# Altium schematic symbol library Liquid Tremolo.SchLib: 27 symbols
Pins are listed as number, name and electrical type; pins without a type are passive.

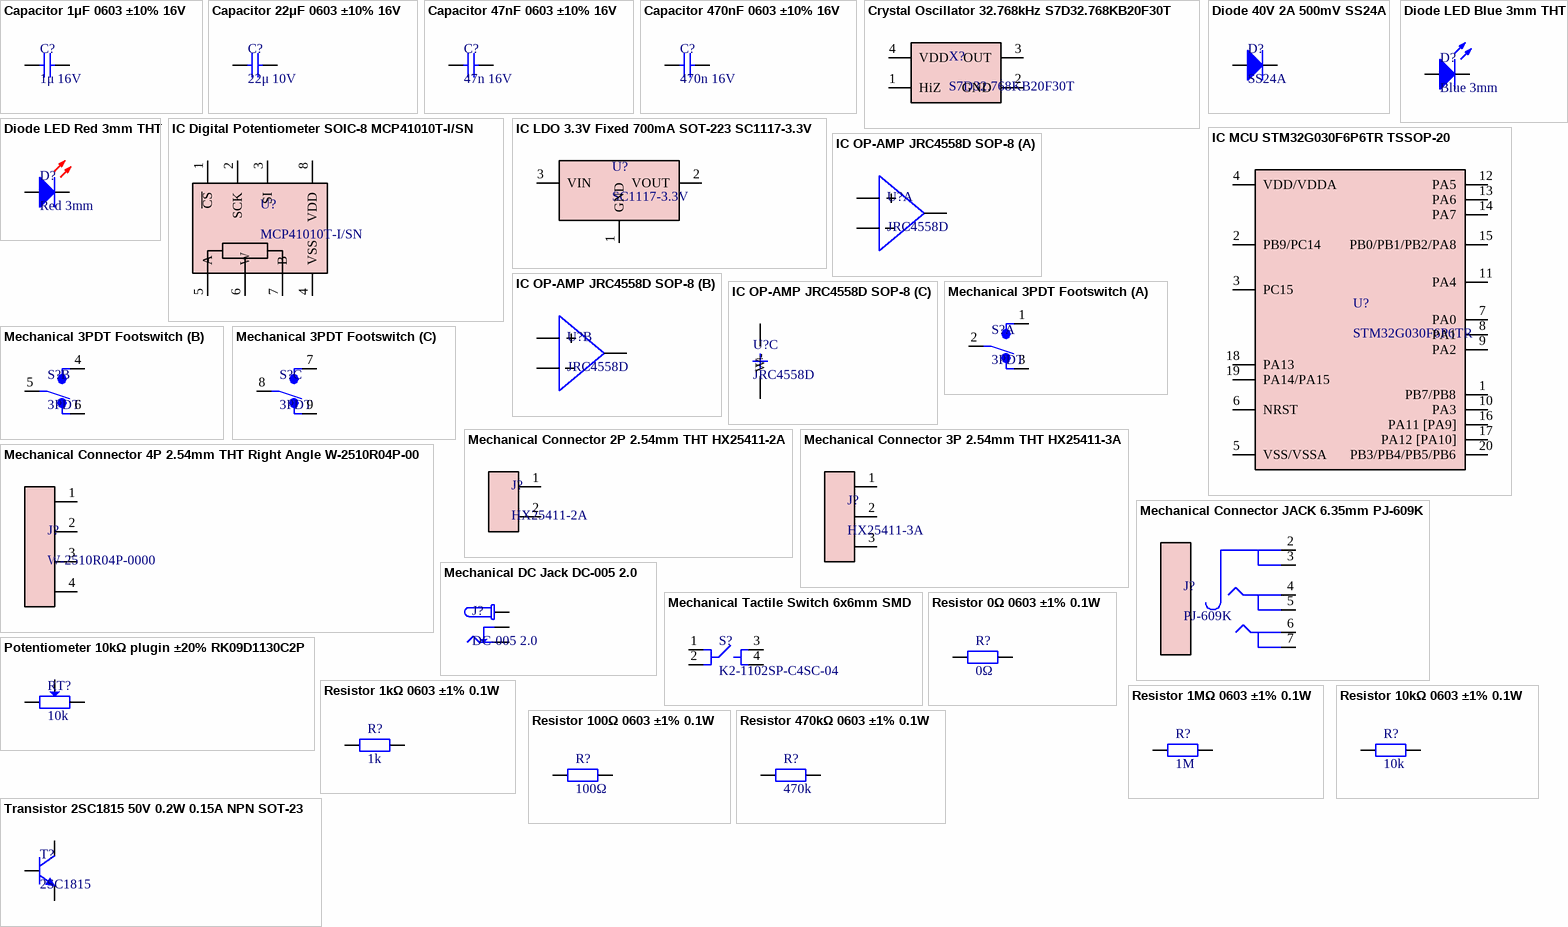
[diagram p0: symbols Capacitor 1μF 0603 ±10% 16V to Transistor 2SC1815 50V 0.2W 0.15A NPN SOT-23]

## Capacitor 1μF 0603 ±10% 16V
designator C?, comment 1μ 16V
X7R ±10% 1uF 16V 0603 Multilayer Ceramic Capacitors MLCC - SMD/SMT ROHS; Mfr. Part #: CC0603KRX7R7BB105; Type: SMD; LCSC Part #: C106248; Package: 0603; ComponentLink1Description: Datasheet; ComponentLink1URL: https://datasheet.lcsc.com/lcsc/1811082135_YAGEO-CC0603KRX7R7BB473_C115058.pdf
footprint Capacitor 0603
pins: 1, 2

## Capacitor 22μF 0603 ±10% 16V
designator C?, comment 22μ 10V
X5R ±20% 10V 22uF 0603 Multilayer Ceramic Capacitors MLCC - SMD/SMT ROHS; Mfr. Part #: 0603X226M100NT; Type: SMD; LCSC Part #: C60077; Package: 0603; ComponentLink1Description: Datasheet; ComponentLink1URL: https://datasheet.lcsc.com/lcsc/1811151152_FH-Guangdong-Fenghua-Advanced-Tech-0603X226M100NT_C60077.pdf
footprint Capacitor 0603
pins: 1, 2

## Capacitor 47nF 0603 ±10% 16V
designator C?, comment 47n 16V
X7R ±10% 47nF 16V 0603 Multilayer Ceramic Capacitors MLCC - SMD/SMT ROHS; Mfr. Part #: CC0603KRX7R7BB473; Type: SMD; LCSC Part #: C115058; Package: 0603; ComponentLink1Description: Datasheet; ComponentLink1URL: https://datasheet.lcsc.com/lcsc/1811082135_YAGEO-CC0603KRX7R7BB473_C115058.pdf
footprint Capacitor 0603
pins: 1, 2

## Capacitor 470nF 0603 ±10% 16V
designator C?, comment 470n 16V
X7R ±10% 470nF 16V 0603 Multilayer Ceramic Capacitors MLCC - SMD/SMT ROHS; Mfr. Part #: CC0603KRX7R7BB474; Type: SMD; LCSC Part #: C106851; Package: 0603; ComponentLink1Description: Datasheet; ComponentLink1URL: https://datasheet.lcsc.com/lcsc/1811082135_YAGEO-CC0603KRX7R7BB473_C115058.pdf
footprint Capacitor 0603
pins: 1, 2

## Crystal Oscillator 32.768kHz S7D32.768KB20F30T
designator X?, comment S7D32.768KB20F30T
3.3V 32.768KHz ±20ppm SMD7050-4P Oscillators ROHS; Mfr. Part #: S7D32.768KB20F30T; LCSC Part #: C387070; Package: SMD7050-4P; ComponentLink1Description: Datasheet; ComponentLink1URL: https://datasheet.lcsc.com/lcsc/1912111437_Shenzhen-SCTF-Elec-S7D32-768KB20F30T_C387070.pdf; Type: SMD
footprint S7D32.768KB20F30T
pins: 1 HiZ, 2 GND, 3 OUT, 4 VDD

## Diode 40V 2A 500mV SS24A
designator D?, comment SS24A
40V 2A 500mV @ 2A SMA(DO-214AC) Schottky Barrier Diodes (SBD) ROHS; Type: SMD; Mfr. Part #: SS24A; LCSC Part #: C181203; Package: SMA(DO-214AC); ComponentLink1Description: Datasheet; ComponentLink1URL: https://datasheet.lcsc.com/lcsc/1811151533_Guangdong-Hottech-SS24A_C181203.pdf
footprint SS24A
pins: 1, 2

## Diode LED Blue 3mm THT
designator D?, comment Blue 3mm
Blue 460nm~470nm 2.7V~3.6V Through Hole Light Emitting Diodes (LED) ROHS; Mfr. Part #: TJ-L3FYTGCBMCGSFLC6B-A5; Type: THT; LCSC Part #: C330760; Package: Through Hole; ComponentLink1Description: Datasheet; ComponentLink1URL: https://datasheet.lcsc.com/lcsc/2006301911_TOGIALED-TJ-L3FYTGCBMCGSFLC6B-A5_C330760.pdf
footprint LED 3MM BLUE
pins: 1, 2

## Diode LED Red 3mm THT
designator D?, comment Red 3mm
Red 620nm~630nm 1.8V~2.6V Through Hole Light Emitting Diodes (LED) ROHS; Mfr. Part #: TJ-L4FYTGCRMFCSFLC2R-A5; Type: THT; LCSC Part #: C331039; Package: Through Hole; ComponentLink1Description: Datasheet; ComponentLink1URL: https://datasheet.lcsc.com/lcsc/2006301911_TOGIALED-TJ-L3FYTGCBMCGSFLC6B-A5_C330760.pdf
footprint LED 3MM BLUE
pins: 1, 2

## IC Digital Potentiometer SOIC-8 MCP41010T-I/SN
designator U?, comment MCP41010T-I/SN
SOIC-8 Digital Potentiometers ROHS; Mfr. Part #: MCP41010T-I/SN; LCSC Part #: C136395; Package: SOIC-8; ComponentLink1Description: Datasheet; ComponentLink1URL: https://datasheet.lcsc.com/lcsc/1806121747_Microchip-Tech-MCP41010T-I-SN_C136395.pdf; Type: SMD
footprint MCP41010
pins: 1 ~{CS}, 2 SCK, 3 SI, 4 VSS, 5 A, 6 W, 7 B, 8 VDD

## IC LDO 3.3V Fixed 700mA SOT-223 SC1117-3.3V
designator U?, comment SC1117-3.3V
12V 1.5V @ 700mA Fixed 3.3V SOT-223 Linear Voltage Regulators (LDO) ROHS; Mfr. Part #: SC1117-3.3V; LCSC Part #: C173386; Package: SOT-223; ComponentLink1Description: Datasheet; ComponentLink1URL: https://datasheet.lcsc.com/lcsc/2105181504_Shenzhen-Fuman-Elec-SC1117-3-3V_C173386.pdf; Type: SMD
footprint SC1117-3.3V
pins: 1 GND, 2 VOUT, 3 VIN

## IC MCU STM32G030F6P6TR TSSOP-20
designator U?, comment STM32G030F6P6TR
TSSOP-20 ST Microelectronics ROHS; Mfr. Part #: STM32G030F6P6TR; LCSC Part #: C529330; Package: SOIC-8; ComponentLink1Description: Datasheet; ComponentLink1URL: https://datasheet.lcsc.com/lcsc/2005192134_STMicroelectronics-STM32G030F6P6TR_C529330.pdf; Type: TSSOP-20
footprint STM32G030F6P6TR
pins: 1 PB7/PB8, 2 PB9/PC14, 3 PC15, 4 VDD/VDDA, 5 VSS/VSSA, 6 NRST, 7 PA0, 8 PA1, 9 PA2, 10 PA3, 11 PA4, 12 PA5, 13 PA6, 14 PA7, 15 PB0/PB1/PB2/PA8, 16 PA11 [PA9], 17 PA12 [PA10], 18 PA13, 19 PA14/PA15, 20 PB3/PB4/PB5/PB6

## IC OP-AMP JRC4558D SOP-8
designator U?, comment JRC4558D
SOP-8 Operational Amplifier ROHS; Mfr. Part #: JRC4558D; LCSC Part #: C443686; Package: SOP-8; ComponentLink1Description: Datasheet; ComponentLink1URL: https://datasheet.lcsc.com/lcsc/1912111437_UMW-Youtai-Semiconductor-Co---Ltd--JRC4558D_C443686.pdf; Type: SMD
footprint JRC4558
part A pins: 1 OUT, 2 IN-, 3 IN+
part B pins: 5 IN+, 6 IN-, 7 OUT
part C pins: 4 V-, 8 V+

## Mechanical 3PDT Footswitch
designator S?, comment 3PDT
Top Actuated 50mA @ 12VDC Round Button SPST 6*6mm Tactile Switches ROHS; ComponentLink1Description: Datasheet; ComponentLink1URL: https://effectpedalkits.com/wp-content/uploads/2018/02/3pdt-latching-footswitch-dimensions.jpg
footprint 3PDT
part A pins: 1, 2, 3
part B pins: 4, 5, 6
part C pins: 7, 8, 9

## Mechanical Connector 2P 2.54mm THT HX25411-2A
designator J?, comment HX25411-2A
LCSC Part # C181912 / Package P=2.54mm / Manufacturer HX(Zhejiang Yueqing Hongxing Elec); Mfr. Part #: HX25411-2A; LCSC Part #: C181912; Package: P=2.54mm; ComponentLink1Description: Datasheet; ComponentLink1URL: https://datasheet.lcsc.com/lcsc/1810161736_HX-Zhejiang-Yueqing-Hongxing-Elec-HX25411-2A_C181912.pdf; Type: THT
footprint HX25411-2A
pins: 1, 2

## Mechanical Connector 3P 2.54mm THT HX25411-3A
designator J?, comment HX25411-3A
3 Header CH 0.100"(2.54mm) Male Pin Through Hole Wire To Board / Wire To Wire Connector ROHS; Mfr. Part #: HX25411-3A; LCSC Part #: C190647; Package: Through Hole; ComponentLink1Description: Datasheet; ComponentLink1URL: https://datasheet.lcsc.com/lcsc/1811151531_HX-Zhejiang-Yueqing-Hongxing-Elec-HX25411-3A_C190647.pdf; Type: THT
footprint HX25411-3A
pins: 1, 2, 3

## Mechanical Connector 4P 2.54mm THT Right Angle W-2510R04P-0000
designator J?, comment W-2510R04P-0000
4 Header MX2.54 0.100"(2.54mm) Male Pin Through Hole,P=2.54mm Wire To Board / Wire To Wire Connector ROHS; Mfr. Part #: W-2510R04P-0000; LCSC Part #: C169027; Package: Through Hole; ComponentLink1Description: Datasheet; ComponentLink1URL: https://datasheet.lcsc.com/lcsc/1810222331_Ckmtw-Shenzhen-Cankemeng-W-2510R04P-0000_C169027.pdf; Type: THT
footprint W-2510R04P-0000
pins: 1, 2, 3, 4

## Mechanical Connector JACK 6.35mm PJ-609K
designator J?, comment PJ-609K
6.35mm Plug-in headphone holder Horizontal 6 Female - Audio & Video Connectors ROHS; Mfr. Part #: PJ-609K; LCSC Part #: C309276; Package: -; ComponentLink1Description: Datasheet; ComponentLink1URL: https://datasheet.lcsc.com/lcsc/1912111437_HOOYA-PJ-609K_C309276.pdf; Type: THT
footprint HOOYA PJ-609K
pins: 2, 3, 4, 5, 6, 7

## Mechanical DC Jack DC-005 2.0
designator J?, comment DC-005 2.0
Through Hole AC/DC Power Plugs & Receptacles ROHS; Mfr. Part #: DC-005 2.0; LCSC Part #: C16214; Package: Through Hole; ComponentLink1Description: Datasheet; ComponentLink1URL: https://datasheet.lcsc.com/lcsc/1811051112_BOOMELE-Boom-Precision-Elec-DC-005-2-0_C16214.pdf; Type: THT
footprint DC-005 2.0
pins: 2, 3, 4

## Mechanical Tactile Switch 6x6mm SMD
designator S?, comment K2-1102SP-C4SC-04
Top Actuated 50mA @ 12VDC Round Button SPST 6*6mm Tactile Switches ROHS; Mfr. Part #: K2-1102SP-C4SC-04; LCSC Part #: C127509; Package: 6*6mm; ComponentLink1Description: Datasheet; ComponentLink1URL: https://datasheet.lcsc.com/lcsc/1811082113_Korean-Hroparts-Elec-K2-1102SP-C4SC-04_C127509.pdf; Type: SMD
footprint K2-1102SP-C4SC-04
pins: 1, 2, 3, 4

## Potentiometer 10kΩ plugin ±20% RK09D1130C2P
designator RT?, comment 10k
±20% 10kΩ Plugin Variable Resistors/Potentiometers ROHS; Mfr. Part #: RK09D1130C2P; LCSC Part #: C361173; Package: Plugin; ComponentLink1Description: Datasheet; ComponentLink1URL: https://datasheet.lcsc.com/lcsc/1912111437_ALPSALPINE-RK09D1130C2P_C361173.pdf; Type: THT
footprint RK09D1130C2P
pins: 1, 2, 3

## Resistor 0Ω 0603 ±1% 0.1W
designator R?, comment 0Ω
75V -55℃~+155℃ ±1% Thick Film Resistors 100mW 0Ω 0603 Chip Resistor - Surface Mount ROHS; Mfr. Part #: RC0603FR-070RL; LCSC Part #: C100044; Package: 0603; ComponentLink1Description: Datasheet; ComponentLink1URL: https://datasheet.lcsc.com/lcsc/1810182020_YAGEO-RC0603FR-071KL_C22548.pdf; Type: SMD
footprint Resistor 0603
pins: 1, 2

## Resistor 1kΩ 0603 ±1% 0.1W
designator R?, comment 1k
±1% ±100ppm/℃ 1kΩ 0.1W 0603 Chip Resistor - Surface Mount ROHS; Mfr. Part #: RC0603FR-071KL; LCSC Part #: C22548; Package: 0603; ComponentLink1Description: Datasheet; ComponentLink1URL: https://datasheet.lcsc.com/lcsc/1810182020_YAGEO-RC0603FR-071KL_C22548.pdf; Type: SMD
footprint Resistor 0603
pins: 1, 2

## Resistor 1MΩ 0603 ±1% 0.1W
designator R?, comment 1M
1MΩ ±1% 0.1W 0603 Chip Resistor - Surface Mount ROHS; Mfr. Part #: RMC06031M1%N; LCSC Part #: C269705; Package: 0603; ComponentLink1Description: Datasheet; ComponentLink1URL: https://datasheet.lcsc.com/lcsc/1811101311_TyoHM-RMC06031M1-N_C269705.pdf; Type: SMD
footprint Resistor 0603
pins: 1, 2

## Resistor 10kΩ 0603 ±1% 0.1W
designator R?, comment 10k
±1% ±100ppm/℃ 10kΩ 0.1W 0603 Chip Resistor - Surface Mount ROHS; Mfr. Part #: 0603WAF1002T5E; LCSC Part #: C25804; Package: 0603; ComponentLink1Description: Datasheet; ComponentLink1URL: https://datasheet.lcsc.com/lcsc/1811021221_UNI-ROYAL-Uniroyal-Elec-0603WAF4703T5E_C23178.pdf; Type: SMD
footprint Resistor 0603
pins: 1, 2

## Resistor 100Ω 0603 ±1% 0.1W
designator R?, comment 100Ω
±1% ±200ppm/℃ 100Ω 0.1W 0603 Chip Resistor - Surface Mount ROHS; Mfr. Part #: 0603WAF1000T5E; LCSC Part #: C22775; Package: 0603; ComponentLink1Description: Datasheet; ComponentLink1URL: https://datasheet.lcsc.com/lcsc/1811021221_UNI-ROYAL-Uniroyal-Elec-0603WAF4703T5E_C23178.pdf; Type: SMD
footprint Resistor 0603
pins: 1, 2

## Resistor 470kΩ 0603 ±1% 0.1W
designator R?, comment 470k
±1% 470kΩ ±100ppm/℃ 0.1W 0603 Chip Resistor - Surface Mount ROHS; Mfr. Part #: 0603WAF4703T5E; LCSC Part #: C23178; Package: 0603; ComponentLink1Description: Datasheet; ComponentLink1URL: https://datasheet.lcsc.com/lcsc/1811021221_UNI-ROYAL-Uniroyal-Elec-0603WAF4703T5E_C23178.pdf; Type: SMD
footprint Resistor 0603
pins: 1, 2

## Transistor 2SC1815 50V 0.2W 0.15A NPN SOT-23
designator T?, comment 2SC1815
50V 0.2W 0.15A NPN SOT-23(SOT-23-3) Bipolar Transistors - BJT ROHS; Type: SMD; Mfr. Part #: 2SC1815; LCSC Part #: C181171; Package: SOT-23; ComponentLink1Description: Datasheet; ComponentLink1URL: https://datasheet.lcsc.com/lcsc/1810091731_Guangdong-Hottech-2SC1815_C181171.pdf
footprint 2SC1815
pins: 1 B, 2 E, 3 C